# Altium schematic symbol library CL10B105KO8NNNC.SchLib: 1 symbol
Pins are listed as number, name and electrical type; pins without a type are passive.

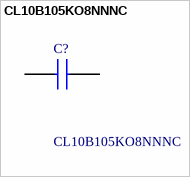
[diagram p0: symbol CL10B105KO8NNNC]

## CL10B105KO8NNNC
designator C?
Samsung Electro-Mechanics 1uF Multilayer Ceramic Capacitor MLCC 16V dc +/-10% X7R Dielectric 0603 (1608M) SMD; Geometry.Height: 0.9mm; Mouser Part Number: 187-CL10B105KO8NNNC; Mouser Price/Stock: https://www.mouser.co.uk/ProductDetail/Samsung-Electro-Mechanics/CL10B105KO8NNNC?qs=349EhDEZ59o2mlUAs%2FkaKg%3D%3D; Manufacturer_Name: SAMSUNG; Manufacturer_Part_Number: CL10B105KO8NNNC; Datasheet Link: https://datasheet.datasheetarchive.com/originals/distributors/Datasheets-DGA10/2410179.pdf
footprint CAPC1608X90N
pins: 1, 2